# Altium footprint library PTPS2117DRLR.PcbLib: 3 footprints
Each footprint in its own frame and in the unit in brackets; x right, y up, seen from the top. Pads: shape width x height; smd on the part's side, far side on the other; paste and mask are expansions set on the pad; w line width, h text height; cw(c..) or ccw(c..) is an arc to the next point about the centre after c.
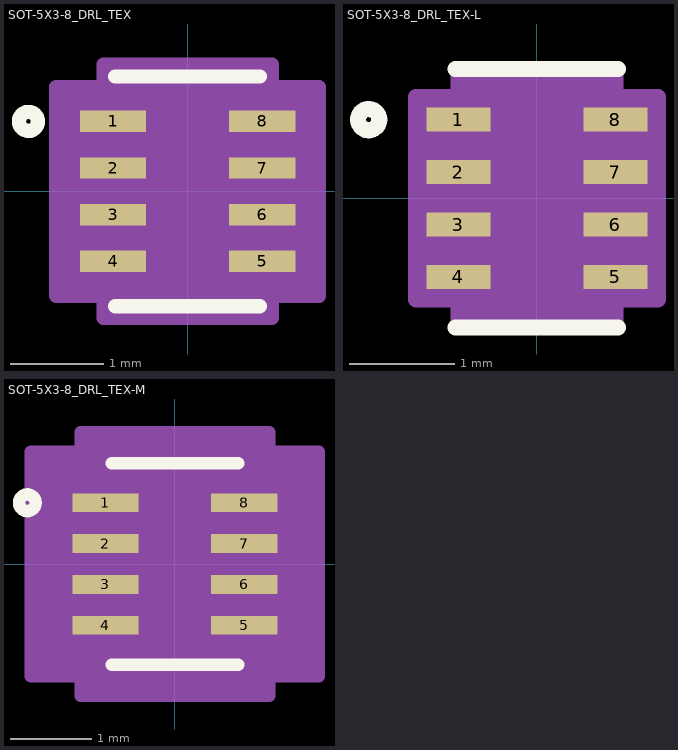
[diagram p0: the footprints below, top view; thin cyan lines are the x and y axes]

## SOT-5X3-8_DRL_TEX [mil]
pads (8):
  rect 28x9 smd paste+0 mask+0: 1(-31.46,29.53) 2(-31.46,9.84) 3(-31.46,-9.84) 4(-31.46,-29.53) 5(31.46,-29.53) 6(31.46,-9.84) 7(31.46,9.84) 8(31.46,29.53)
Top Overlay:
  circle w6: c-67.15,29.53 r4
  lines w6: -30.5,-48.5 30.5,-48.5 ; -30.5,48.5 30.5,48.5
  text ".Designator" at -137.5,-25 h50
Mechanical 13:
  circle w1: c-17.46,29.53 r3
  lines w1: -12,43.5 ccw(c0,43.5) 12,43.5 ; -25.5,-43.5 25.5,-43.5 25.5,43.5 -25.5,43.5 -25.5,-43.5
  text ".Designator" at -137.5,-25 h50
Mechanical 15:
  region: -35.5,-44.03 -55.46,-44.03 -55.46,44.03 -35.5,44.03 -35.5,53.5 35.5,53.5 35.5,44.03 55.46,44.03 55.46,-44.03 35.5,-44.03 35.5,-53.5 -35.5,-53.5
  lines w6: -55.46,-44.03 -55.46,44.03 -35.5,44.03 -35.5,53.5 35.5,53.5 35.5,44.03 55.46,44.03 55.46,-44.03 35.5,-44.03 35.5,-53.5 -35.5,-53.5 -35.5,-44.03 -55.46,-44.03
3D body "SOT-5X3-8_DRL_TEX.step": height 24.09, standoff 0, extent -33.46,-43.5 33.46,43.5

## SOT-5X3-8_DRL_TEX-L [mil]
pads (8):
  rect 24x9 smd paste+0 mask+0: 1(-29.46,29.53) 2(-29.46,9.84) 3(-29.46,-9.84) 4(-29.46,-29.53) 5(29.46,-29.53) 6(29.46,-9.84) 7(29.46,9.84) 8(29.46,29.53)
Top Overlay:
  circle w6: c-63.15,29.53 r4
  lines w6: -30.5,-48.5 30.5,-48.5 ; -30.5,48.5 30.5,48.5
  text ".Designator" at -137.5,-25 h50
Mechanical 13:
  circle w1: c-17.46,29.53 r3
  lines w1: -12,43.5 ccw(c0,43.5) 12,43.5 ; -25.5,-43.5 25.5,-43.5 25.5,43.5 -25.5,43.5 -25.5,-43.5
  text ".Designator" at -137.5,-25 h50
Mechanical 15:
  region: -29.5,-38.03 -45.46,-38.03 -45.46,38.03 -29.5,38.03 -29.5,47.5 29.5,47.5 29.5,38.03 45.46,38.03 45.46,-38.03 29.5,-38.03 29.5,-47.5 -29.5,-47.5
  lines w6: -45.46,-38.03 -45.46,38.03 -29.5,38.03 -29.5,47.5 29.5,47.5 29.5,38.03 45.46,38.03 45.46,-38.03 29.5,-38.03 29.5,-47.5 -29.5,-47.5 -29.5,-38.03 -45.46,-38.03
3D body "SOT-5X3-8_DRL_TEX.step": height 24.09, standoff 0, extent -33.46,-43.5 33.46,43.5

## SOT-5X3-8_DRL_TEX-M [mil]
pads (8):
  rect 32x9 smd paste+0 mask+0: 1(-33.46,29.53) 2(-33.46,9.84) 3(-33.46,-9.84) 4(-33.46,-29.53) 5(33.46,-29.53) 6(33.46,-9.84) 7(33.46,9.84) 8(33.46,29.53)
Top Overlay:
  circle w6: c-71.15,29.53 r4
  lines w6: -30.5,-48.5 30.5,-48.5 ; -30.5,48.5 30.5,48.5
  text ".Designator" at -137.5,-25 h50
Mechanical 13:
  circle w1: c-17.46,29.53 r3
  lines w1: -12,43.5 ccw(c0,43.5) 12,43.5 ; -25.5,-43.5 25.5,-43.5 25.5,43.5 -25.5,43.5 -25.5,-43.5
  text ".Designator" at -137.5,-25 h50
Mechanical 15:
  region: -45.5,-54.03 -69.46,-54.03 -69.46,54.03 -45.5,54.03 -45.5,63.5 45.5,63.5 45.5,54.03 69.46,54.03 69.46,-54.03 45.5,-54.03 45.5,-63.5 -45.5,-63.5
  lines w6: -69.46,-54.03 -69.46,54.03 -45.5,54.03 -45.5,63.5 45.5,63.5 45.5,54.03 69.46,54.03 69.46,-54.03 45.5,-54.03 45.5,-63.5 -45.5,-63.5 -45.5,-54.03 -69.46,-54.03
3D body "SOT-5X3-8_DRL_TEX.step": height 24.09, standoff 0, extent -33.46,-43.5 33.46,43.5